# Altium footprint library F720J108MMC.PcbLib: 3 footprints
Each footprint in its own frame and in the unit in brackets; x right, y up, seen from the top. Pads: shape width x height; smd on the part's side, far side on the other; paste and mask are expansions set on the pad; w line width, h text height; cw(c..) or ccw(c..) is an arc to the next point about the centre after c.
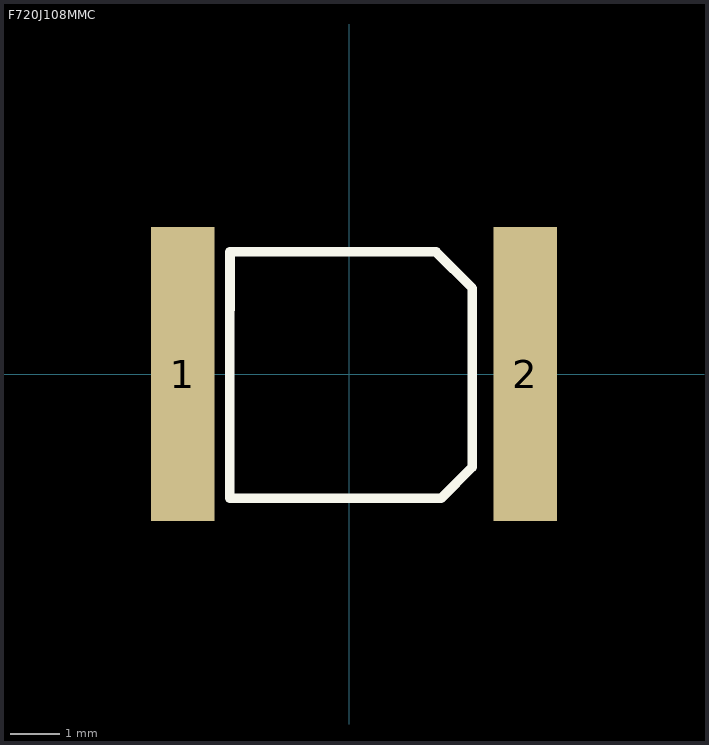
[diagram p0: the footprints below, top view; thin cyan lines are the x and y axes]

## F720J108MMC [mm]
pads (2):
  rect 1.3x6 smd: 1(-3.404,0) 2(3.6,0)
Top Overlay:
  lines w0.198: -2.438,1.312 -2.438,-2.54 1.88,-2.54 2.515,-1.905 2.515,-1.727 2.515,1.651 2.515,1.753 1.778,2.489
  lines w0.2: -2.438,1.312 -2.438,2.5 1.778,2.5

## PCBComponent_1 [mm]

## PCBComponent_1 - duplicate [mm]